# Altium footprint library 2-1445096-2.PcbLib: 1 footprints
Each footprint in its own frame and in the unit in brackets; x right, y up, seen from the top. Pads: shape width x height; smd on the part's side, far side on the other; paste and mask are expansions set on the pad; w line width, h text height; cw(c..) or ccw(c..) is an arc to the next point about the centre after c.
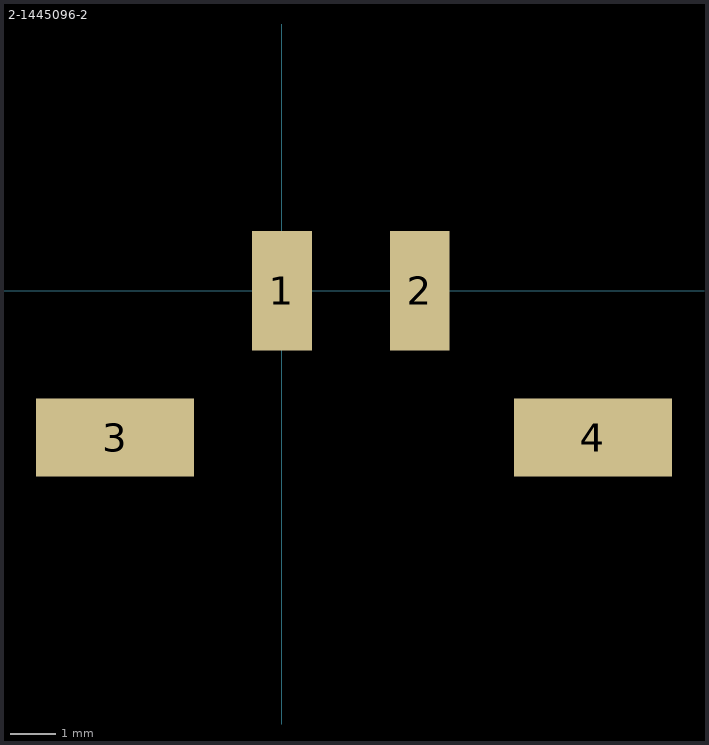
[diagram p0: the footprint, top view; thin cyan lines are the x and y axes]

## 2-1445096-2 [mm]
pads (4):
  rect 1.3x2.6 smd: 1(0,0) 2(3,0)
  rect 3.45x1.7 smd: 3(-3.635,-3.2) 4(6.775,-3.2)
3D body "KyleConn2.stp": height 9.25, standoff -0.08, extent -5.101,-4.98 8.149,1.43